# EAGLE library part MOCD217M (library shutter-pod)
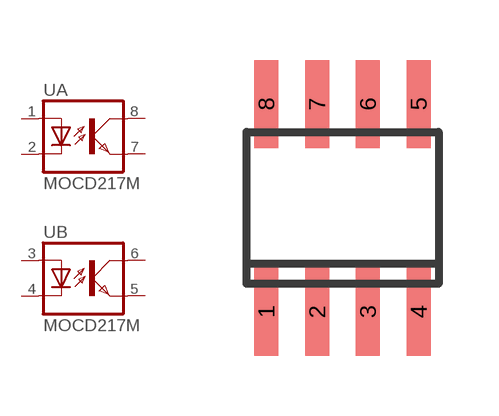
[diagram p1: symbol with the pads of SO08; footprint SO08]

Designator prefix U; gates A=OPTOCOUPLER B=OPTOCOUPLER

## MOCD217M  [SO08]
1  A:A  pas
2  A:C  pas
3  B:A  pas
4  B:C  pas
5  B:EMIT  pas
6  B:COL  pas
7  A:EMIT  pas
8  A:COL  pas

## Footprint SO08 (pad centres in mm)
Linear Devices Operational amplifiers, comparators, voltage regulators, ADCs, DACs, etc. Created by librarian@cadsoft.de
smd 0.6 x 2.2: 1 -1.905,-2.6; 2 -0.635,-2.6; 3 0.635,-2.6; 4 1.905,-2.6; 5 1.905,2.6; 6 0.635,2.6; 7 -0.635,2.6; 8 -1.905,2.6